# Altium footprint library DBS7P.PcbLib: 1 footprints
Each footprint in its own frame and in the unit in brackets; x right, y up, seen from the top. Pads: shape width x height; smd on the part's side, far side on the other; paste and mask are expansions set on the pad; w line width, h text height; cw(c..) or ccw(c..) is an arc to the next point about the centre after c.
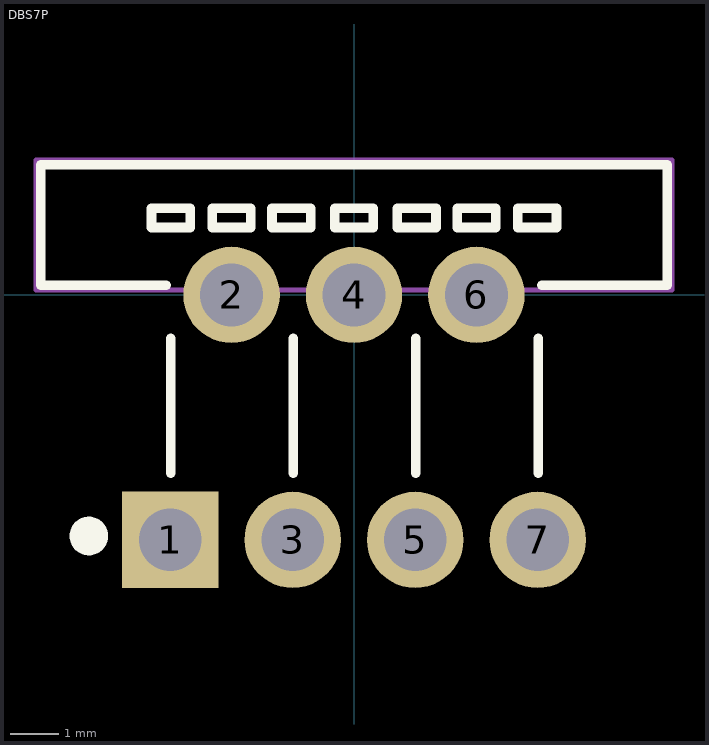
[diagram p0: the footprint, top view; thin cyan lines are the x and y axes]

## DBS7P [mm]
pads (7):
  rect 2x2 hole 1.3: 1(-3.81,-5.08)
  round 2 hole 1.3: 2(-2.54,0) 3(-1.27,-5.08) 4(0,0) 5(1.27,-5.08) 6(2.54,0) 7(3.81,-5.08)
Top Overlay:
  circle w0.4: c-5.5,-5 r0.2
  lines w0.2: -4,1.8 -3.6,1.8 ; -3.9,0.2 -6.5,0.2 -6.5,2.7 6.5,2.7 6.5,0.2 3.9,0.2 ; -3.8,-3.7 -3.8,-0.9 ; -2.74,1.8 -2.34,1.8 ; -1.5,1.8 -1.1,1.8 ; -1.26,-3.7 -1.26,-0.9 ; -0.2,1.8 0.2,1.8 ; 1.1,1.8 1.5,1.8 ; 1.28,-3.7 1.28,-0.9 ; 2.34,1.8 2.74,1.8 ; 3.6,1.8 4,1.8 ; 3.82,-3.7 3.82,-0.9 ; -4.2,1.4 -4.2,1.8 -3.4,1.8 -3.4,1.4 -4.2,1.4 ; -2.94,1.4 -2.94,1.8 -2.14,1.8 -2.14,1.4 -2.94,1.4 ; -1.7,1.4 -1.7,1.8 -0.9,1.8 -0.9,1.4 -1.7,1.4 ; -0.4,1.4 0.4,1.4 0.4,1.8 -0.4,1.8 -0.4,1.4 ; 0.9,1.4 0.9,1.8 1.7,1.8 1.7,1.4 0.9,1.4 ; 2.14,1.4 2.14,1.8 2.94,1.8 2.94,1.4 2.14,1.4 ; 3.4,1.4 3.4,1.8 4.2,1.8 4.2,1.4 3.4,1.4
Mechanical 13:
  lines w0.1: -6.6,0.1 -6.6,2.8 6.6,2.8 6.6,0.1 -6.6,0.1